# Altium footprint library Connector - Barrier Block.PcbLib: 6 footprints
Each footprint in its own frame and in the unit in brackets; x right, y up, seen from the top. Pads: shape width x height; smd on the part's side, far side on the other; paste and mask are expansions set on the pad; w line width, h text height; cw(c..) or ccw(c..) is an arc to the next point about the centre after c.
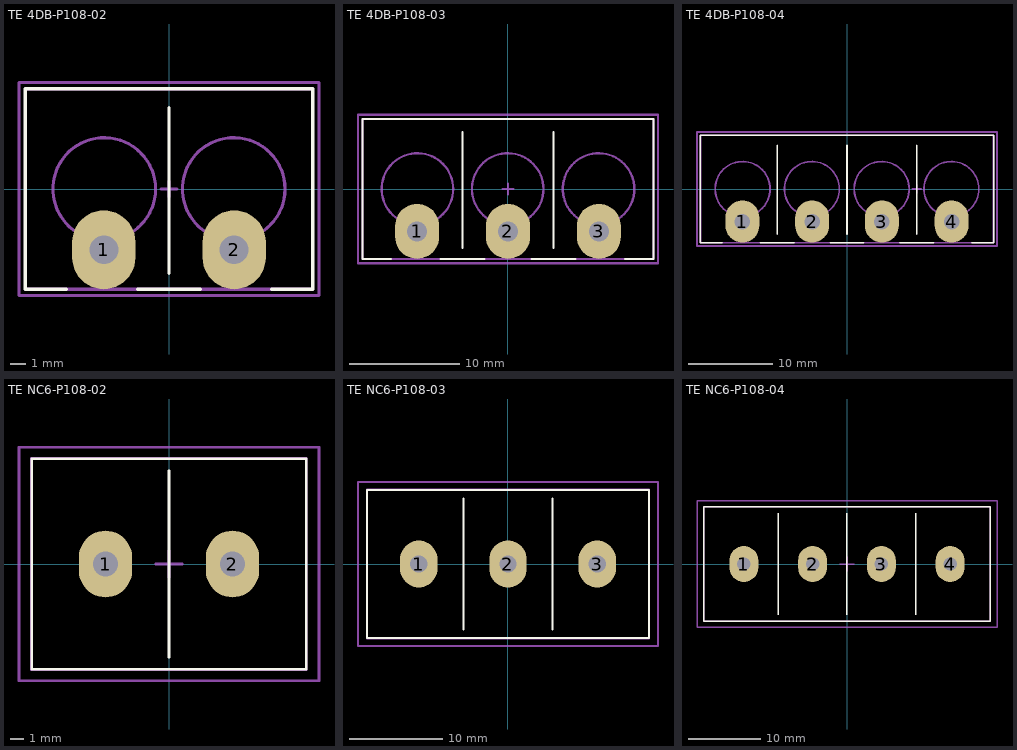
[diagram p0: the footprints below, top view; thin cyan lines are the x and y axes]

## TE 4DB-P108-02 [mm] "Assembly, Dual Barrier 4DB P108"
height 13.5
pads (2):
  oval 4x5 hole 1.829: 1(-4.127,-3.85) 2(4.127,-3.85)
Top Overlay:
  lines w0.2: -6.5,-6.35 -9.1,-6.35 -9.1,6.35 9.1,6.35 9.1,-6.35 6.5,-6.35 ; -2,-6.35 2,-6.35 ; 0,-5.35 0,5.15
Mechanical 1:
  circle w0.2: c-4.1,0 r3.25
  circle w0.2: c4.1,0 r3.25
  lines w0.2: -9.081,-6.35 9.081,-6.35 9.081,6.35 -9.081,6.35 -9.081,-6.35
Mechanical 15:
  lines w0.2: -0.5,0 0.5,0 ; 0,-0.5 0,0.5 ; -9.5,-6.75 -9.5,6.75 9.5,6.75 9.5,-6.75 -9.5,-6.75
3D body "TE 4DB-P108-02.STEP": height 14.48, standoff -4.06, extent -9.081,-6.35 9.081,6.35

## TE 4DB-P108-03 [mm] "Assembly, Dual Barrier 4DB P108"
height 13.5
pads (3):
  oval 4x5 hole 1.829: 1(-8.255,-3.85) 2(0,-3.85) 3(8.256,-3.85)
Top Overlay:
  lines w0.2: -10.627,-6.35 -13.227,-6.35 -13.227,6.35 13.228,6.35 13.228,-6.35 10.628,-6.35 ; -6.128,-6.35 -2.127,-6.35 ; -4.127,-5.35 -4.127,5.15 ; 2.128,-6.35 6.129,-6.35 ; 4.129,-5.35 4.129,5.15
Mechanical 1:
  circle w0.2: c-0.028,0 r3.25
  circle w0.2: c-8.227,0 r3.25
  circle w0.2: c8.229,0 r3.25
  lines w0.2: -13.208,-6.35 -13.208,6.35 13.209,6.35 13.209,-6.35 -13.208,-6.35
Mechanical 15:
  lines w0.2: -0.499,0 0.5,0 ; 0.001,-0.5 0.001,0.5 ; -13.627,-6.75 13.628,-6.75 13.628,6.75 -13.627,6.75 -13.627,-6.75
3D body "TE 4DB-P108-03.STEP": height 14.47, standoff -4.06, extent -13.208,-6.35 13.208,6.35

## TE 4DB-P108-04 [mm] "Assembly, Dual Barrier 4DB P108"
height 13.5
pads (4):
  oval 4x5 hole 1.829: 1(-12.383,-3.85) 2(-4.127,-3.85) 3(4.127,-3.85) 4(12.383,-3.85)
Top Overlay:
  lines w0.2: -14.755,-6.35 -17.355,-6.35 -17.355,6.35 17.355,6.35 17.355,-6.35 14.755,-6.35 ; -10.255,-6.35 -6.255,-6.35 ; -8.255,-5.35 -8.255,5.15 ; -2,-6.35 2,-6.35 ; 0,-5.35 0,5.15 ; 6.255,-6.35 10.255,-6.35 ; 8.255,-5.35 8.255,5.15
Mechanical 1:
  circle w0.2: c12.355,0 r3.25
  circle w0.2: c4.1,0 r3.25
  circle w0.2: c-4.155,0 r3.25
  circle w0.2: c-12.355,0 r3.25
  lines w0.2: -17.336,-6.35 17.336,-6.35 17.336,6.35 -17.336,6.35 -17.336,-6.35
Mechanical 15:
  lines w0.2: 7.755,0 8.755,0 ; 8.255,-0.5 8.255,0.5 ; -17.755,-6.75 -17.755,6.75 17.755,6.75 17.755,-6.75 -17.755,-6.75
3D body "TE 4DB-P108-04.STEP": height 14.47, standoff -4.06, extent -17.336,-6.35 17.335,6.35

## TE NC6-P108-02 [mm]
height 16.51
pads (2):
  oval 4x5 hole 1.854: 1(-4.763,0) 2(4.763,0)
Top Overlay:
  lines w0.2: 0,-7 0,7 ; -10.3,-7.9 -10.3,7.9 10.3,7.9 10.3,-7.9 -10.3,-7.9
Mechanical 1:
  lines w0.2: -10.312,-7.937 -10.312,7.938 10.287,7.938 10.287,-7.937 -10.312,-7.937
Mechanical 15:
  lines w0.2: -1,0 1,0 ; 0,-1 0,1 ; -11.25,-8.75 -11.25,8.75 11.25,8.75 11.25,-8.75 -11.25,-8.75
3D body "TE NC6-P108-02.STEP": height 16.38, standoff -4.57, extent -10.312,-7.937 10.287,7.938

## TE NC6-P108-03 [mm]
height 16.51
pads (3):
  oval 4x5 hole 1.854: 1(-9.525,0) 2(0,0) 3(9.526,0)
Top Overlay:
  lines w0.2: -4.763,-7 -4.763,7 ; 4.763,-7 4.763,7 ; -15.062,-7.9 -15.062,7.9 15.063,7.9 15.063,-7.9 -15.062,-7.9
Mechanical 1:
  lines w0.2: -15.075,-7.937 -15.075,7.938 15.05,7.938 15.05,-7.937 -15.075,-7.937
Mechanical 15:
  lines w0.2: -1,0 1,0 ; 0,-1 0,1 ; -16.013,-8.75 -16.013,8.75 16.013,8.75 16.013,-8.75 -16.013,-8.75
3D body "TE NC6-P108-03.STEP": height 16.38, standoff -4.57, extent -15.075,-7.937 15.05,7.938

## TE NC6-P108-04 [mm]
height 16.51
pads (4):
  oval 4x5 hole 1.854: 1(-14.289,0) 2(-4.764,0) 3(4.761,0) 4(14.286,0)
Top Overlay:
  lines w0.2: -9.526,-7 -9.526,7 ; -0.001,-7 -0.001,7 ; 9.524,-7 9.524,7 ; -19.826,-7.9 -19.826,7.9 19.826,7.9 19.826,-7.9 -19.826,-7.9
Mechanical 1:
  lines w0.2: -19.838,-7.937 -19.838,7.938 19.813,7.938 19.813,-7.937 -19.838,-7.937
Mechanical 15:
  lines w0.2: -1,0 1,0 ; 0,-1 0,1 ; -20.776,-8.75 -20.776,8.75 20.776,8.75 20.776,-8.75 -20.776,-8.75
3D body "TE NC6-P108-04.STEP": height 16.38, standoff -4.57, extent -19.837,-7.937 19.812,7.938